# Altium integrated library Zarlink Comm CODEC.IntLib: 1 symbol
Pins are listed as number, name and electrical type; pins without a type are passive.

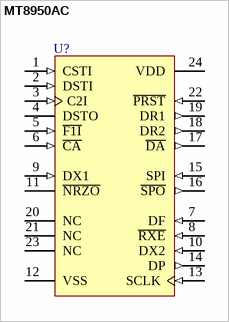
[diagram p0: symbol MT8950AC]

## MT8950AC
designator U?
Data Codec; Published: 8-Jun-2000; LatestRevisionDate: 17-Jul-2002; LatestRevisionNote: Re-released for DXP Platform.; DatasheetVersion: Issue 4 November 1990; PackageVersion: 1995; PackageReference: CDIP24; Publisher: Altium Limited; PackageDescription: DIP; 24 Leads; Row Spacing 15.24 mm; Pitch 2.54 mm; Code_JEDEC: MS-011-AA; ComponentLink1Description: Manufacturer Link; ComponentLink1URL: http://products.zarlink.com
footprint CDIP24 (DIP; 24 Leads; Row Spacing 15.24 mm; Pitch 2.54 mm)
pins: 1 CSTI (in), 2 DSTI (in), 3 C2I (in), 4 DSTO (hiz), 5 ~{F1I} (in), 6 ~{CA} (in), 7 DF (in), 8 ~{RXE} (in), 9 DX1 (in), 10 DX2 (in), 11 ~{NRZO} (oc), 12 VSS (power), 13 SCLK (in), 14 DP (out), 15 SPI (in), 16 ~{SPO} (out), 17 ~{DA} (out), 18 DR2 (out), 19 DR1 (out), 20 NC, 21 NC, 22 ~{PRST} (in), 23 NC, 24 VDD (power)